# Altium schematic symbol library LCD.SchLib: 1 symbol
Pins are listed as number, name and electrical type; pins without a type are passive.

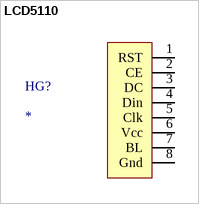
[diagram p0: symbol LCD5110]

## LCD5110
designator HG?
Дисплей Nokia 5110 84x48
footprint LCD
pins: 1 RST, 2 CE, 3 DC, 4 Din, 5 Clk, 6 Vcc, 7 BL, 8 Gnd